# Altium schematic symbol library 2015-10-09_12-53-27.SchLib: 19 symbols
Pins are listed as number, name and electrical type; pins without a type are passive.

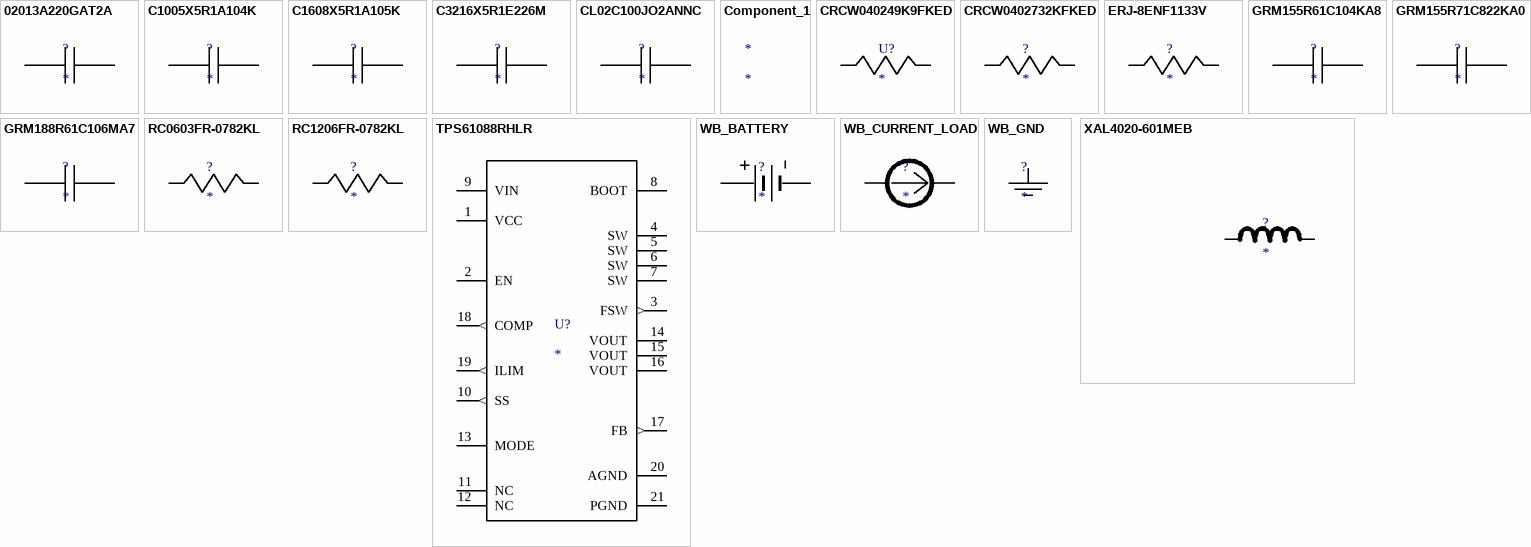
[diagram p0: symbols 02013A220GAT2A to XAL4020-601MEB]

## 02013A220GAT2A
designator ?
Imported; Manufacturer_Part_Number: 02013A220GAT2A; Vendor: AVX; Manufacturer_Name: AVX; RefDes: RefDes; TYPE: TYPE; Value: Value
footprint 0201
pins: 1, 2

## C1005X5R1A104K
designator ?
Imported; Manufacturer_Part_Number: C1005X5R1A104K; Vendor: TDK; Manufacturer_Name: TDK; RefDes: RefDes; TYPE: TYPE; Value: Value
footprint 1005
pins: 1, 2

## C1608X5R1A105K
designator ?
Imported; Manufacturer_Part_Number: C1608X5R1A105K; Vendor: TDK; Manufacturer_Name: TDK; RefDes: RefDes; TYPE: TYPE; Value: Value
footprint 1608
pins: 1, 2

## C3216X5R1E226M
designator ?
Imported; Manufacturer_Part_Number: C3216X5R1E226M; Vendor: TDK; Manufacturer_Name: TDK; RefDes: RefDes; TYPE: TYPE; Value: Value
footprint 1206
pins: 1, 2

## CL02C100JO2ANNC
designator ?
Imported; Manufacturer_Part_Number: CL02C100JO2ANNC; Vendor: Samsung Electro-Mechanics; Manufacturer_Name: Samsung Electro-Mechanics; RefDes: RefDes; TYPE: TYPE; Value: Value
footprint 01005
pins: 1, 2

## Component_1
designator *

## CRCW040249K9FKED
designator U?
Imported; PartNumber: CRCW040249K9FKED; Manufacturer_Name: Vishay-Dale; Res_ohm: 49900; Power_W: 0.063; Manufacturer_Part_Number: CRCW040249K9FKED; RefDes: RefDes; TYPE: TYPE; Value: Value
footprint 0402
pins: 1, 2

## CRCW0402732KFKED
designator ?
Imported; Manufacturer_Part_Number: CRCW0402732KFKED; Vendor: Vishay-Dale; Manufacturer_Name: Vishay-Dale; RefDes: RefDes; TYPE: TYPE; Value: Value
footprint 0402
pins: 1, 2

## ERJ-8ENF1133V
designator ?
Imported; Manufacturer_Part_Number: ERJ-8ENF1133V; Vendor: Panasonic; Manufacturer_Name: Panasonic; RefDes: RefDes; TYPE: TYPE; Value: Value
footprint 1206
pins: 1, 2

## GRM155R61C104KA8
designator ?
Imported; Manufacturer_Part_Number: GRM155R61C104KA88D; Vendor: MuRata; Manufacturer_Name: MuRata; RefDes: RefDes; TYPE: TYPE; Value: Value
footprint 0402
pins: 1, 2

## GRM155R71C822KA0
designator ?
Imported; Manufacturer_Part_Number: GRM155R71C822KA01D; Vendor: MuRata; Manufacturer_Name: MuRata; RefDes: RefDes; TYPE: TYPE; Value: Value
footprint 0402
pins: 1, 2

## GRM188R61C106MA7
designator ?
Imported; Manufacturer_Part_Number: GRM188R61C106MA73D; Cap: 1.0E-5; ESR: 0; VDC: 16; Vendor: Murata; IRMS: 0; Manufacturer_Name: MuRata; RefDes: RefDes; TYPE: TYPE; Value: Value
footprint 0603
pins: 1, 2

## RC0603FR-0782KL
designator ?
Imported; Manufacturer_Part_Number: RC0603FR-0782KL; Vendor: Yageo America; Manufacturer_Name: Yageo America; RefDes: RefDes; TYPE: TYPE; Value: Value
footprint 0603
pins: 1, 2

## RC1206FR-0782KL
designator ?
Imported; Manufacturer_Part_Number: RC1206FR-0782KL; Vendor: Yageo America; Manufacturer_Name: Yageo America; RefDes: RefDes; TYPE: TYPE; Value: Value
footprint 1206
pins: 1, 2

## TPS61088RHLR
designator U?
Imported; PartNumber: TPS61088RHLR; Alternate PartNumber: TPS61088RHLT; Manufacturer: Texas Instruments; CompType: IC; PIN_COUNT: 21; Application_BuildNumber: *; PackageReference: RHL0020A; MountType: SMT; RoHS: Y; RefDes: RefDes; TYPE: TYPE; Value: Value; Manufacturer_Part_Number: TPS61088RHLR; Manufacturer_Name: Texas Instruments
footprint RHL0020A
pins: 1 VCC, 2 EN, 3 FSW (out), 4 SW (power), 5 SW (power), 6 SW (power), 7 SW (power), 8 BOOT (power), 9 VIN, 10 SS (out), 11 NC, 12 NC, 13 MODE, 14 VOUT, 15 VOUT, 16 VOUT, 17 FB (out), 18 COMP (out), 19 ILIM (out), 20 AGND, 21 PGND

## WB_BATTERY
designator ?
Imported; Manufacturer_Part_Number: WB_BATTERY; PowerPortType: POWER_GROUND; Value: Value; Manufacturer_Name: WB_BATTERY; RefDes: RefDes; TYPE: TYPE
pins: 1 +, 2 -

## WB_CURRENT_LOAD
designator ?
Imported; Manufacturer_Part_Number: WB_CURRENT_LOAD; PowerPortType: POWER_GROUND; Value: Value; Manufacturer_Name: WB_CURRENT_LOAD; RefDes: RefDes; TYPE: TYPE
pins: 1 +, 2 -

## WB_GND
designator ?
Imported; Manufacturer_Part_Number: WB_GND; PowerPortType: POWER_GROUND; Value: Value; Manufacturer_Name: WB_GND; RefDes: RefDes; TYPE: TYPE
pins: 1

## XAL4020-601MEB
designator ?
Imported; Manufacturer_Part_Number: XAL4020-601MEB; Vendor: Coilcraft; Manufacturer_Name: Coilcraft; RefDes: RefDes; TYPE: TYPE; Value: Value
footprint XAL4020
pins: 1, 2